# EAGLE library part 015-91-0060 (library U96-SVM)
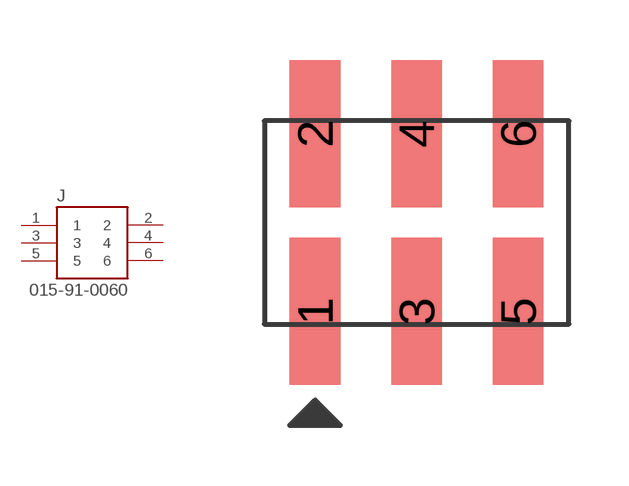
[diagram p8: symbol with the pads of 015-91-0060; footprint 015-91-0060]

Designator prefix J

## 015-91-0060  [015-91-0060]
1  1
2  2
3  3
4  4
5  5
6  6

## Footprint 015-91-0060 (pad centres in mm)
smd 1.27 x 3.68: 1 -2.54,-2.22; 2 -2.54,2.22; 3 0,-2.22; 4 0,2.22; 5 2.54,-2.22; 6 2.54,2.22